# Altium schematic symbol library LED.SchLib: 11 symbols
Pins are listed as number, name and electrical type; pins without a type are passive.

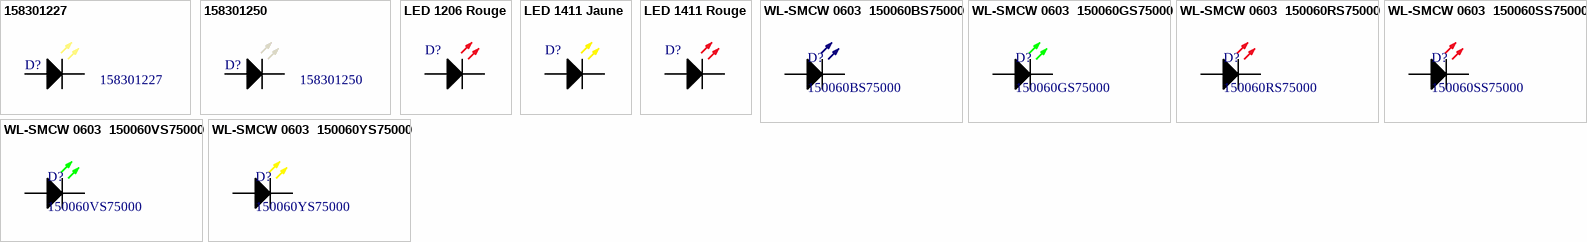
[diagram p0: symbols 158301227 to WL-SMCW 0603  150060YS75000]

## 158301227
designator D?
LED WL-SWTP WARM WHT 2700K 1206; Manufacturer: Wurth Elektronik; Supplier 1: Farnell; Supplier Part Number 1: 2470220; Manufacturer Part Number: 158301227; ComponentLink1URL: http://katalog.we-online.de/led/datasheet/158301227.pdf; ComponentLink1Description: Datasheet
footprint WL-SWTP_3014 (SMD White Top view PLCC, body 3x1.4)
pins: 1 C, 2 A

## 158301250
designator D?
LED WL-SWTP COOL WHT 5000K 1206; Manufacturer: Wurth Elektronik; ComponentLink1Description: Datasheet; Supplier 1: Farnell; Manufacturer Part Number: 158301250; Supplier Part Number 1: 2470223; ComponentLink1URL: https://www.we-online.de/katalog/datasheet/158301250.pdf
footprint WL-SWTP_3014 (SMD White Top view PLCC, body 3x1.4)
pins: 1 C, 2 A

## LED 1206 Rouge
designator D?, comment 150120RS75000  (value not drawn)
WL-SMCW SMD LED Rouge; Manufacturer: Wurth Elektronik; Supplier 1: Farnell; Supplier Part Number 1: 2322086; Manufacturer Part Number: 150120RS75000; ComponentLink1URL: http://katalog.we-online.de/led/datasheet/150120RS75000.pdf; ComponentLink1Description: Datasheet
footprint SMCW_1206
pins: 1 C, 2 A

## LED 1411 Jaune
designator D?, comment 150141YS73100  (value not drawn)
WL-SMTW SMD chip LED Jaune; Manufacturer: Wurth Elektronik; Supplier 1: Farnell; Supplier Part Number 1: 2322111; Manufacturer Part Number: 150141YS73100; ComponentLink1URL: http://katalog.we-online.de/led/datasheet/150141YS73100.pdf; ComponentLink1Description: Datasheet
footprint SMTW
pins: 1 C, 2 A

## LED 1411 Rouge
designator D?, comment 150141RS73100  (value not drawn)
WL-SMTW SMD chip LED rouge; Manufacturer: Wurth Elektronik; Supplier 1: Farnell; Supplier Part Number 1: 2322107; Manufacturer Part Number: 150141RS73100; ComponentLink1URL: http://katalog.we-online.de/led/datasheet/150141RS73100.pdf; ComponentLink1Description: Datasheet
footprint SMTW
pins: 1 C, 2 A

## WL-SMCW 0603  150060BS75000
designator D?, comment 150060BS75000
SMD mono-color Chip LED, WL-SMCW, Blue; Manufacturer: Wurth Elektronik; Manufacturer Part Number: 150060BS75000; ComponentLink1Description: Datasheet; ComponentLink1URL: http://katalog.we-online.com/led/datasheet/150060BS75000.pdf; Value: Blue; Supplier 1: Farnell; Supplier Part Number 1: 2322069; Supplier 2: JLCPCB; Supplier Part Number 2: C72041; Supplier Footprint 2: LED_0603
footprint SMCW_0603 (Chip LED, 2-Leads, Body 1.6x0.8mm, IPC Medium Density)
footprint SMCW_0603 - MIXTE (Chip LED, 2-Leads or Standard 3mm led)
pins: 1 C, 2 A

## WL-SMCW 0603  150060GS75000
designator D?, comment 150060GS75000
SMD mono-color Chip LED, WL-SMCW, Green; Manufacturer: Wurth Elektronik; Value: Vert; Manufacturer Part Number: 150060GS75000; ComponentLink1Description: Datasheet; ComponentLink1URL: http://katalog.we-online.com/led/datasheet/150060GS75000.pdf; Supplier 1: Farnell; Supplier Part Number 1: 2322070; Supplier 2: JLCPCB; Supplier Part Number 2: C72043; Supplier Footprint 2: LED_0603
footprint SMCW_0603 (Chip LED, 2-Leads, Body 1.6x0.8mm, IPC Medium Density)
footprint SMCW_0603 - MIXTE (Chip LED, 2-Leads or Standard 3mm led)
pins: 1 C, 2 A

## WL-SMCW 0603  150060RS75000
designator D?, comment 150060RS75000
SMD mono-color Chip LED, WL-SMCW, Red; Manufacturer: Wurth Elektronik; Value: Rouge; Manufacturer Part Number: 150060RS75000; ComponentLink1Description: Datasheet; ComponentLink1URL: http://katalog.we-online.com/led/datasheet/150060RS75000.pdf; Supplier 1: Farnell; Supplier Part Number 1: 2322071; Supplier 2: JLCPCB; Supplier Part Number 2: C2286; Supplier Footprint 2: LED_0603
footprint SMCW_0603 (Chip LED, 2-Leads, Body 1.6x0.8mm, IPC Medium Density)
footprint SMCW_0603 - MIXTE (Chip LED, 2-Leads or Standard 3mm led)
pins: 1 C, 2 A

## WL-SMCW 0603  150060SS75000
designator D?, comment 150060SS75000
SMD mono-color Chip LED, WL-SMCW, Super Red; Manufacturer: Wurth Elektronik; Value: Super Rouge; Manufacturer Part Number: 150060SS75000; ComponentLink1Description: Datasheet; ComponentLink1URL: http://katalog.we-online.com/led/datasheet/150060SS75000.pdf; Supplier 1: Farnell; Supplier Part Number 1: 2322071
footprint SMCW_0603 (Chip LED, 2-Leads, Body 1.6x0.8mm, IPC Medium Density)
footprint SMCW_0603 - MIXTE (Chip LED, 2-Leads or Standard 3mm led)
pins: 1 C, 2 A

## WL-SMCW 0603  150060VS75000
designator D?, comment 150060VS75000
SMD mono-color Chip LED, WL-SMCW, Bright Green; Manufacturer: Wurth Elektronik; Value: Super Vert; Manufacturer Part Number: 150060VS75000; ComponentLink1Description: Datasheet; ComponentLink1URL: http://katalog.we-online.com/led/datasheet/150060VS75000.pdf; Supplier 1: Farnell; Supplier Part Number 1: 2322073
footprint SMCW_0603 (Chip LED, 2-Leads, Body 1.6x0.8mm, IPC Medium Density)
footprint SMCW_0603 - MIXTE (Chip LED, 2-Leads or Standard 3mm led)
pins: 1 C, 2 A

## WL-SMCW 0603  150060YS75000
designator D?, comment 150060YS75000
SMD mono-color Chip LED, WL-SMCW, Yellow; Manufacturer: Wurth Elektronik; Value: Jaune; Manufacturer Part Number: 150060YS75000; ComponentLink1Description: Datasheet; ComponentLink1URL: http://katalog.we-online.com/led/datasheet/150060YS75000.pdf; Supplier 1: Farnell; Supplier Part Number 1: 2322074; Supplier 2: JLCPCB; Supplier Part Number 2: C72038; Supplier Footprint 2: LED_0603
footprint SMCW_0603 (Chip LED, 2-Leads, Body 1.6x0.8mm, IPC Medium Density)
footprint SMCW_0603 - MIXTE (Chip LED, 2-Leads or Standard 3mm led)
pins: 1 C, 2 A